# EAGLE library part USB-787616 (library tagps)
AMP connector
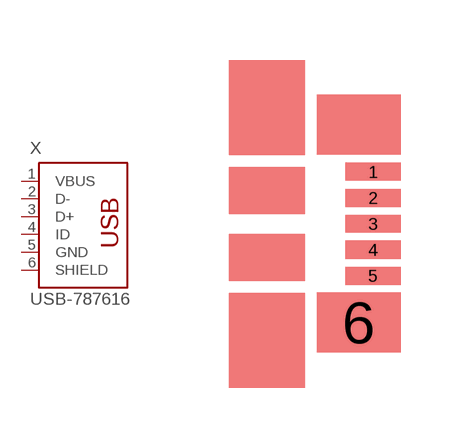
[diagram p5: symbol with the pads of USB; footprint USB]

Designator prefix X

## USB-787616  [USB]
1  VBUS  pas
2  D-  pas
3  D+  pas
4  ID  pas
5  GND  pas
6  SHIELD  pas

## Footprint USB (pad centres in mm)
USB connector
smd 1.38 x 0.45: 1 -0.69,1.3; 2 -0.69,0.65; 3 -0.69,0; 4 -0.69,-0.65; 5 -0.69,-1.3
smd 2.1 x 1.5: 6 -1.05,-2.47